# EAGLE library part AFBR-59R5LZ (library avago-fiberoptic)
Requires 3.3V 210mA
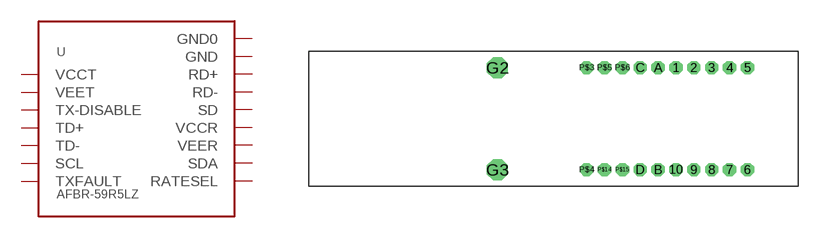
[diagram p0: symbol with the pads of AFBR-59R5LZ; footprint AFBR-59R5LZ]

Designator prefix -

## AFBR-59R5LZ  [AFBR-59R5LZ]
1  TD-
2  TD+
3  TX-DISABLE
4  VEET
5  VCCT
6  RD+
7  RD-
8  SD
9  VCCR
10  VEER
A  SCL
B  SDA
C  TXFAULT
D  RATESEL
G2  GND
G3  GND0

## Footprint AFBR-59R5LZ (pad centres in mm)
drill 0.813 octagon: 1 8.89,5.08; 2 10.668,5.08; 3 12.446,5.08; 4 14.224,5.08; 5 16.002,5.08; 6 16.002,-5.08; 7 14.224,-5.08; 8 12.446,-5.08; 9 10.668,-5.08; 10 8.89,-5.08; A 7.112,5.08; B 7.112,-5.08; C 5.334,5.08; D 5.334,-5.08; P$3 0,5.08; P$4 0,-5.08; P$5 1.778,5.08; P$6 3.556,5.08; P$14 1.778,-5.08; P$15 3.556,-5.08
drill 1.397 octagon: G2 -8.89,5.08; G3 -8.89,-5.08